# Altium footprint library LSM模块.PcbLib: 6 footprints
Each footprint in its own frame and in the unit in brackets; x right, y up, seen from the top. Pads: shape width x height; smd on the part's side, far side on the other; paste and mask are expansions set on the pad; w line width, h text height; cw(c..) or ccw(c..) is an arc to the next point about the centre after c.
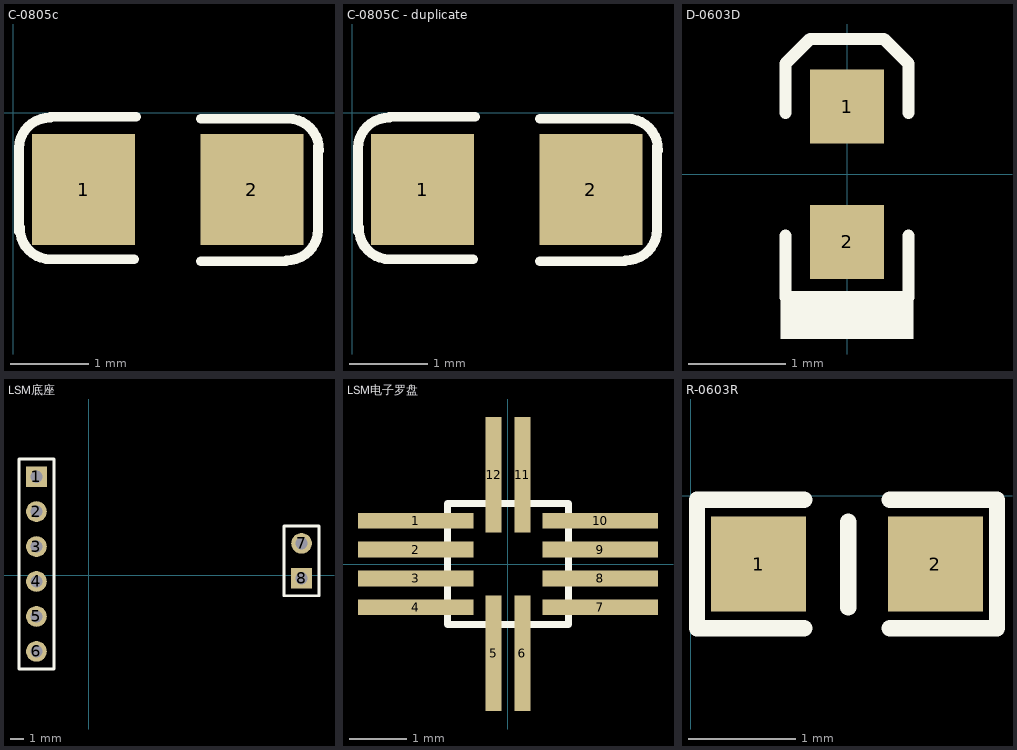
[diagram p0: the footprints below, top view; thin cyan lines are the x and y axes]

## C-0805c [mil]
pads (2):
  rect 52x56 smd: 1(35.6,-38.84) 2(120.6,-38.84)
Top Overlay:
  lines w5: 3,-60 3,-17 ; 3,-18 cw(c18.52,-18) 18.96,-2.49 ; 3.49,-58.04 ccw(c19,-58.48) 19,-74 ; 17,-74 61,-74 ; 19,-2 62,-2 ; 95,-75 138,-75 ; 95,-3 140,-3 ; 138.04,-74.51 ccw(c138.48,-59) 154,-59 ; 139,-3 cw(c139,-18.52) 154.51,-18.96 ; 154,-60 154,-17
3D body: height 37.4, standoff 0, extent 37.64,-61.62 116.37,-14.37

## C-0805C - duplicate [mil]
pads (2):
  rect 52x56 smd: 1(35.6,-38.84) 2(120.6,-38.84)
Top Overlay:
  lines w5: 3,-60 3,-17 ; 3,-18 cw(c18.52,-18) 18.96,-2.49 ; 3.49,-58.04 ccw(c19,-58.48) 19,-74 ; 17,-74 61,-74 ; 19,-2 62,-2 ; 95,-75 138,-75 ; 95,-3 140,-3 ; 138.04,-74.51 ccw(c138.48,-59) 154,-59 ; 139,-3 cw(c139,-18.52) 154.51,-18.96 ; 154,-60 154,-17
3D body: height 37.4, standoff 0, extent 37.64,-61.62 116.37,-14.37

## D-0603D [mil]
pads (2):
  rect 30x30 smd: 1(0,27.5) 2(0,-27.5)
Top Overlay:
  rectangle: -27,-67 27,-50
  lines w5: -25,-25 -25,-50 25,-50 25,-25 ; -25,25 -25,45 -15,55 15,55 25,45 25,25
3D body: height 11.81, standoff 3.94, extent -15,-29 15,28
3D body: height 3.94, standoff 0, extent -15,-39 15,38
3D body: height 7.87, standoff 3.94, extent -10,-8 10,8

## LSM底座 [mm]
pads (8):
  rect 1.5x1.5 hole 0.9: 1(-3.81,7.163) 8(15.443,-0.229)
  round 1.5 hole 0.9: 2(-3.81,4.623) 3(-3.81,2.083) 4(-3.81,-0.457) 5(-3.81,-2.997) 6(-3.81,-5.537) 7(15.443,2.311)
Top Overlay:
  lines w0.2: -5.08,-6.807 -5.08,8.433 -2.54,8.433 -2.54,-6.807 -5.08,-6.807 ; 14.173,-1.499 16.713,-1.499 16.713,3.581 14.173,3.581 14.173,-1.499
3D body: height 10.1, standoff -1.5, extent -5.08,-6.858 -2.54,8.382
3D body: height 2, standoff -8, extent 14.198,-1.524 16.738,3.556

## LSM电子罗盘 [mm]
pads (12):
  rect 2x0.275 smd: 1(-1.6,0.75) 2(-1.6,0.25) 3(-1.6,-0.25) 4(-1.6,-0.75) 7(1.6,-0.75) 8(1.6,-0.25) 9(1.6,0.25) 10(1.6,0.75)
  rect 0.275x2 smd: 5(-0.25,-1.55) 6(0.25,-1.55) 11(0.25,1.55) 12(-0.25,1.55)
Top Overlay:
  lines w0.127: -1.05,-1.05 -1.05,1.05 1.05,1.05 1.05,-1.05 -1.05,-1.05
  text "." at -1.65,1.45 h0.76

## R-0603R [mil]
pads (2):
  rect 35x35 smd: 1(25,-25) 2(90,-25)
Top Overlay:
  lines w6: 41.75,-48.62 2.38,-48.62 2.38,-1.38 41.75,-1.38 ; 58,-41 58,-9.5 ; 73.24,-48.62 112.61,-48.62 112.61,-1.38 73.24,-1.38
3D body: height 14.96, standoff 0, extent 24.5,-40.49 87.5,-9